# EAGLE library part DSD1792A (library ic-TI)
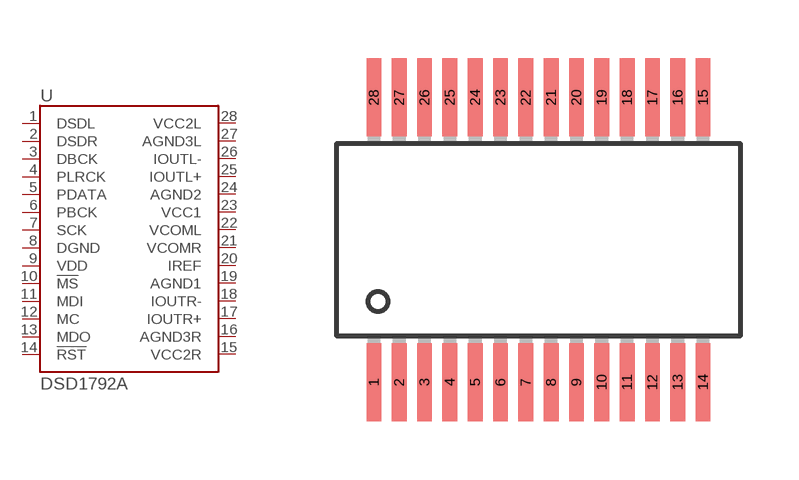
[diagram p1: symbol with the pads of SSOP28; footprint SSOP28]

Designator prefix U

## DSD1792A  [SSOP28]
1  DSDL
2  DSDR
3  DBCK
4  PLRCK
5  PDATA
6  PBCK
7  SCK
8  DGND
9  VDD
10  !MS
11  MDI
12  MC
13  MDO
14  !RST
15  VCC2R
16  AGND3R
17  IOUTR+
18  IOUTR-
19  AGND1
20  IREF
21  VCOMR
22  VCOML
23  VCC1
24  AGND2
25  IOUTL+
26  IOUTL-
27  AGND3L
28  VCC2L

## Footprint SSOP28 (pad centres in mm)
smd 0.381 x 2: 1 -4.225,-3.656; 2 -3.575,-3.656; 3 -2.925,-3.656; 4 -2.275,-3.656; 5 -1.625,-3.656; 6 -0.975,-3.656; 7 -0.325,-3.656; 8 0.325,-3.656; 9 0.975,-3.656; 10 1.625,-3.656; 11 2.275,-3.656; 12 2.925,-3.656; 13 3.575,-3.656; 14 4.225,-3.656; 15 4.225,3.656; 16 3.575,3.656; 17 2.925,3.656; 18 2.275,3.656; 19 1.625,3.656; 20 0.975,3.656; 21 0.325,3.656; 22 -0.325,3.656; 23 -0.975,3.656; 24 -1.625,3.656; 25 -2.275,3.656; 26 -2.925,3.656; 27 -3.575,3.656; 28 -4.225,3.656